# EAGLE library part DG407DW (library Vishay_By_element14_Batch_1)
CMOS Analog Multiplexers
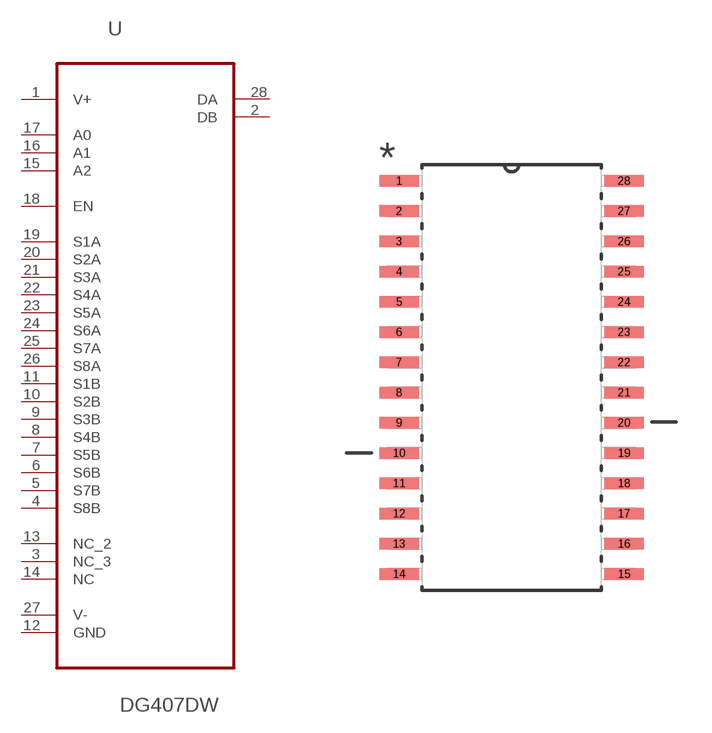
[diagram p28: symbol with the pads of SOIC127P1041X254-28N; footprint SOIC127P1041X254-28N]

Designator prefix U

## DG407DW (MPN: DG407DW; OC_FARNELL: 4475057; OC_NEWARK: 13C1167; PACKAGE: SOIC-28; SUPPLIER: Vishay)  [SOIC127P1041X254-28N]
1  V+  pwr
2  DB  out
3  NC_3  nc
4  S8B  pas
5  S7B  pas
6  S6B  pas
7  S5B  pas
8  S4B  pas
9  S3B  pas
10  S2B  pas
11  S1B  pas
12  GND  pas
13  NC_2  nc
14  NC  nc
15  A2  in
16  A1  in
17  A0  in
18  EN  in
19  S1A  pas
20  S2A  pas
21  S3A  pas
22  S4A  pas
23  S5A  pas
24  S6A  pas
25  S7A  pas
26  S8A  pas
27  V-  pwr
28  DA  out

## Footprint SOIC127P1041X254-28N (pad centres in mm)
smd 1.651 x 0.483: 1 -4.724,8.255; 2 -4.724,6.985; 3 -4.724,5.715; 4 -4.724,4.445; 5 -4.724,3.175; 6 -4.724,1.905; 7 -4.724,0.635; 8 -4.724,-0.635; 9 -4.724,-1.905; 10 -4.724,-3.175; 11 -4.724,-4.445; 12 -4.724,-5.715; 13 -4.724,-6.985; 14 -4.724,-8.255; 15 4.724,-8.255; 16 4.724,-6.985; 17 4.724,-5.715; 18 4.724,-4.445; 19 4.724,-3.175; 20 4.724,-1.905; 21 4.724,-0.635; 22 4.724,0.635; 23 4.724,1.905; 24 4.724,3.175; 25 4.724,4.445; 26 4.724,5.715; 27 4.724,6.985; 28 4.724,8.255